# Altium footprint library 气象传感器.PcbLib: 4 footprints
Each footprint in its own frame and in the unit in brackets; x right, y up, seen from the top. Pads: shape width x height; smd on the part's side, far side on the other; paste and mask are expansions set on the pad; w line width, h text height; cw(c..) or ccw(c..) is an arc to the next point about the centre after c.
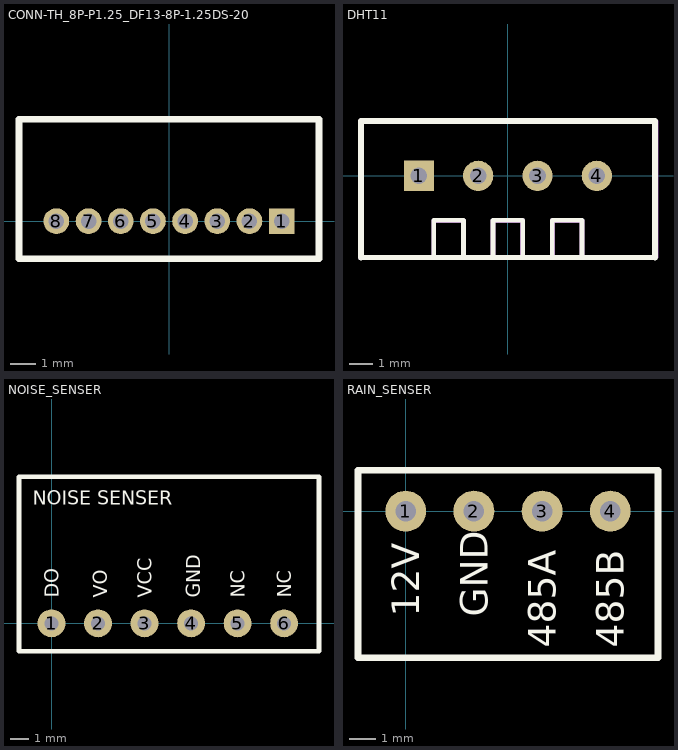
[diagram p0: the footprints below, top view; thin cyan lines are the x and y axes]

## CONN-TH_8P-P1.25_DF13-8P-1.25DS-20 [mm]
pads (8):
  rect 1x1 hole 0.6: 1(4.375,0)
  round 1 hole 0.6: 2(3.125,0) 3(1.875,0) 4(0.625,0) 5(-0.625,0) 6(-1.875,0) 7(-3.125,0) 8(-4.375,0)
Top Overlay:
  lines w0.254: -5.825,-1.452 -5.825,3.948 5.825,3.948 5.825,-1.452 -5.825,-1.452

## DHT11 [mil]
pads (4):
  rect 51x51 hole 28: 1(-150,0)
  round 51 hole 28: 2(-50,0) 3(50,0) 4(150,0)
Top Overlay:
  lines w8: -248.4,-137.8 150,-137.8 248.4,-137.8 ; -125,-137.8 -125,-75 -75,-75 -75,-137.8 ; -25,-137.8 -25,-75 25,-75 25,-137.8 ; 75,-137.8 75,-75 125,-75 125,-137.8
  lines w10: -248.03,-137.8 -248.03,92.5 248.03,92.5 248.4,92.14 248.4,-137.8
Mechanical 15:
  region: -121.26,-133.87 -128.74,-133.87 -128.74,-74.03 -125.98,-71.27 -74.02,-71.27 -71.26,-74.03 -71.26,-133.48 -78.74,-133.48 -78.74,-79.15 -79.13,-78.75 -120.87,-78.75 -121.26,-79.15
  region: -21.25,-133.87 -28.73,-133.87 -28.73,-74.03 -25.98,-71.27 25.99,-71.27 28.75,-74.03 28.75,-133.48 21.27,-133.48 21.27,-79.15 20.87,-78.75 -20.86,-78.75 -21.25,-79.15
  region: 78.74,-133.87 71.26,-133.87 71.26,-74.03 74.02,-71.27 125.98,-71.27 128.74,-74.03 128.74,-133.48 121.26,-133.48 121.26,-79.15 120.87,-78.75 79.14,-78.75 78.74,-79.15
  region: -243.31,-133.87 -243.31,87.78 243.7,87.78 243.7,-133.87 -237.4,-133.87 -237.4,-141.75 249.61,-141.75 253.15,-138.2 253.15,92.9 248.82,97.23 -248.82,97.23 -252.75,93.29 -252.75,-139.38 -250.39,-141.75 -237.79,-141.75 -237.79,-133.87

## NOISE_SENSER [mil] "噪声传感器"
pads (6):
  round 60 hole 30: 1(0,0) 2(100,0) 3(200,0) 4(300,0) 5(400,0) 6(500,0)
Top Overlay:
  lines w10: -70,-60 550,-60 575,-60 575,165 575,315 -70,315 -70,165 -70,-60
  text "NOISE SENSER" at -40,255 h30
  text "NC" at 515,55 h30
  text "NC" at 415,55 h30
  text "GND" at 320,55 h30
  text "VCC" at 215,55 h30
  text "VO" at 120,55 h30
  text "DO" at 15,55 h30

## RAIN_SENSER [mil]
pads (4):
  round 60 hole 30: 1(0,0) 2(100,0) 3(200,0) 4(300,0)
Top Overlay:
  lines w10: -70,-215 370,-215 370,60 -70,60 -70,-215
  text "12V" at 20,-155 h40
  text "GND" at 120,-155 h40
  text "485B" at 320,-200 h40
  text "485A" at 220,-200 h40